# EAGLE library part AD7352 (library ad7352)
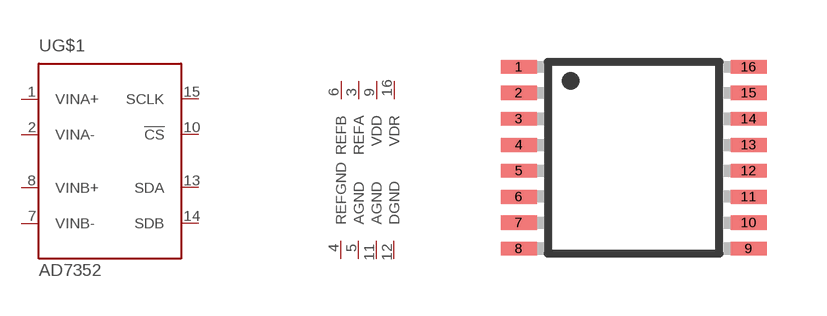
[diagram p0: symbol with the pads of TSSOP16; footprint TSSOP16]

Designator prefix -; gates G$1=ADC G$2=PWR

## AD7352  [TSSOP16]
1  G$1:VINA+  in
2  G$1:VINA-  in
3  G$2:REFA  in
4  G$2:REFGND  pwr
5  G$2:AGND  pwr
6  G$2:REFB  in
7  G$1:VINB-  in
8  G$1:VINB+  in
9  G$2:VDD  pwr
10  G$1:!CS  in
11  G$2:AGND  pwr
12  G$2:DGND  pwr
13  G$1:SDA  out
14  G$1:SDB  out
15  G$1:SCLK  in
16  G$2:VDR  pwr

## Footprint TSSOP16 (pad centres in mm)
16-Lead Thin Shrink Small Outline Package [TSSOP] (RU-16) Source: 8x ADG1408_1409.pdf
smd 0.9 x 0.35: 1 -2.875,2.275; 2 -2.875,1.625; 3 -2.875,0.975; 4 -2.875,0.325; 5 -2.875,-0.325; 6 -2.875,-0.975; 7 -2.875,-1.625; 8 -2.875,-2.275; 9 2.875,-2.275; 10 2.875,-1.625; 11 2.875,-0.975; 12 2.875,-0.325; 13 2.875,0.325; 14 2.875,0.975; 15 2.875,1.625; 16 2.875,2.275